# Altium schematic symbol library Res_Panasonic_ERJ-2RKF1270X_127Ohm.SchLib: 1 symbol
Pins are listed as number, name and electrical type; pins without a type are passive.

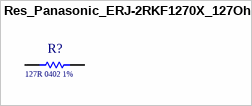
[diagram p0: symbol Res_Panasonic_ERJ-2RKF1270X_127Ohm]

## Res_Panasonic_ERJ-2RKF1270X_127Ohm
designator R?, comment Resistance: 127R 0402 1%  (hidden comment: ERJ-2RKF1270X)
RES SMD 127 OHM 5% 1/5W 0402; Supplier 1: Mouser; Supplier Part Number 1: 667-ERJ-2RKF1270X
footprint Res_Panasonic_ERJ-2RKF1270X_127Ohm
pins: 1, 2